# Altium schematic symbol library FPGA-DemoShield-SchLib.SchLib: 8 symbols
Pins are listed as number, name and electrical type; pins without a type are passive.

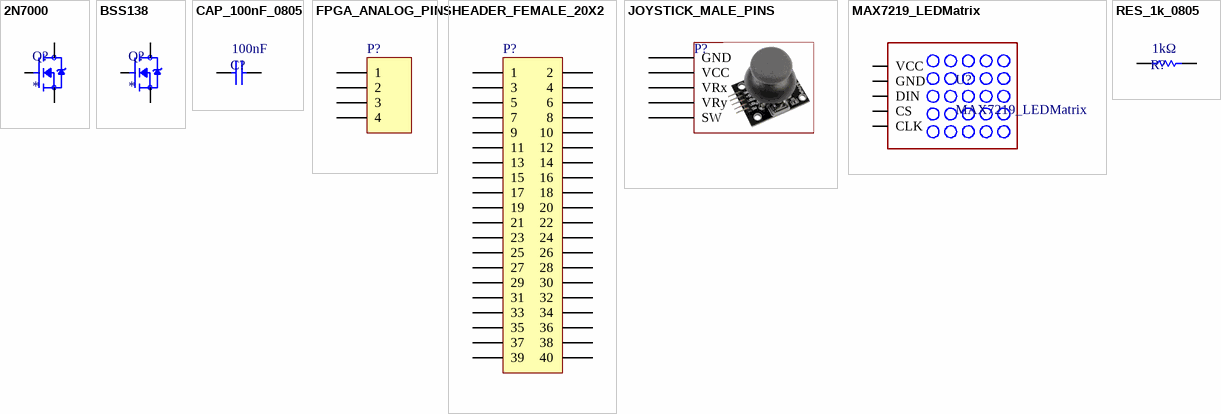
[diagram p0: symbols 2N7000 to RES_1k_0805]

## 2N7000
designator Q?
MOSFET N-CH 60V 350MA TO92-3 /; MP: 2N7000; Package: TO-92
footprint 2N7000-TO-92
pins: 1 S, 2 G, 3 D

## BSS138
designator Q?
N-Channel 50V 220mA (Ta) 360mW (Ta) Surface Mount SOT-23-3; MP: BSS138; Price: None; Value: *; Availability: Unavailable; Package: None
footprint BSS138-SOT23
pins: 1 G, 2 S, 3 D

## CAP_100nF_0805
designator C?  value 100nF
CAP 100nF 0805; Published: 8-Jun-2000; LatestRevisionDate: 17-Jul-2002; LatestRevisionNote: Re-released for DXP Platform.; PackageReference: RAD-0.3; Publisher: Altium Limited; PackageDescription: Radial Cap, Thru-Hole; 2 Leads; 0.3 in Pin Spacing
footprint CAP_0805
pins: 1, 2

## FPGA_ANALOG_PINS
designator P?
Header, 4-Pin
footprint HDR1X4_MALE (Connector; Header; 4 Position)
pins: 1, 2, 3, 4

## HEADER_FEMALE_20X2
designator P?
Header, 20-Pin, Dual row
footprint HDR2X20_FEMALE (Connector; Header; 20x2 Position)
pins: 1, 2, 3, 4, 5, 6, 7, 8, 9, 10, 11, 12, 13, 14, 15, 16, 17, 18, 19, 20, 21, 22, 23, 24, 25, 26, 27, 28, 29, 30, 31, 32, 33, 34, 35, 36, 37, 38, 39, 40

## JOYSTICK_MALE_PINS
designator P?
Header, 5-Pin
footprint HDR1X5_MALE (Connector; Header; 5 Position)
pins: 1 GND, 2 VCC, 3 VRx, 4 VRy, 5 SW

## MAX7219_LEDMatrix
designator U?
LED MATRIX; Parameter 1: *
footprint LED_MATRIX (Connector; Header; 5 Position)
pins: 1 VCC, 2 GND, 3 DIN, 4 CS, 5 CLK

## RES_1k_0805
designator R?  value 1kΩ
1k RES 0805; Published: 8-Jun-2000; LatestRevisionDate: 17-Jul-2002; LatestRevisionNote: Re-released for DXP Platform.; PackageReference: AXIAL-0.3; Publisher: Altium Limited; PackageDescription: Axial Device, Thru-Hole; 2 Leads; 0.3 in Pin Spacing
footprint RES_0805
pins: 1, 2